# EAGLE library part PINHD-2X5_SMD (library Spici_ControlBoard)
2 by 5 surface mount pin header Datasheet link: https://www.oupiin.com/download.html?act=gTData&dID=3813
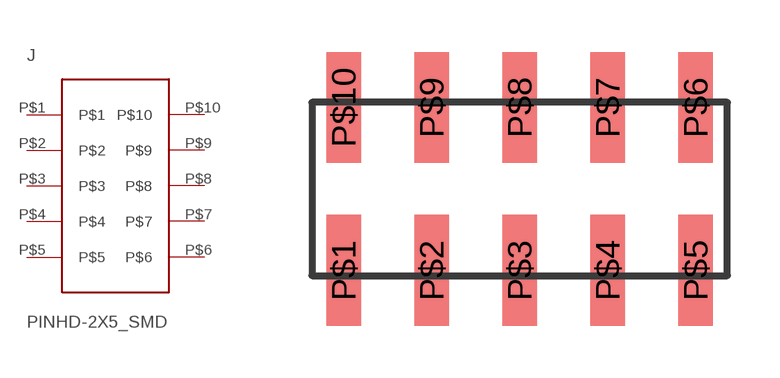
[diagram p4: symbol with the pads of PINHD-2X5_SMD; footprint PINHD-2X5_SMD]

Designator prefix J

## PINHD-2X5_SMD (DKPN: 2553-2015-2X05G01DB-ND)  [PINHD-2X5_SMD]
P$1  P$1
P$2  P$2
P$3  P$3
P$4  P$4
P$5  P$5
P$6  P$6
P$7  P$7
P$8  P$8
P$9  P$9
P$10  P$10

## Footprint PINHD-2X5_SMD (pad centres in mm)
https://www.oupiin.com/download.html?act=gTData&dID=3813
smd 1 x 3.2: P$1 -5.08,-2.35; P$2 -2.54,-2.35; P$3 0,-2.35; P$4 2.54,-2.35; P$5 5.08,-2.35; P$6 5.08,2.35; P$7 2.54,2.35; P$8 0,2.35; P$9 -2.54,2.35; P$10 -5.08,2.35